# Altium schematic symbol library kmilo17pet-LT_OpAmp_LT2000.SchLib: 1710 symbols (part 53 of 75)
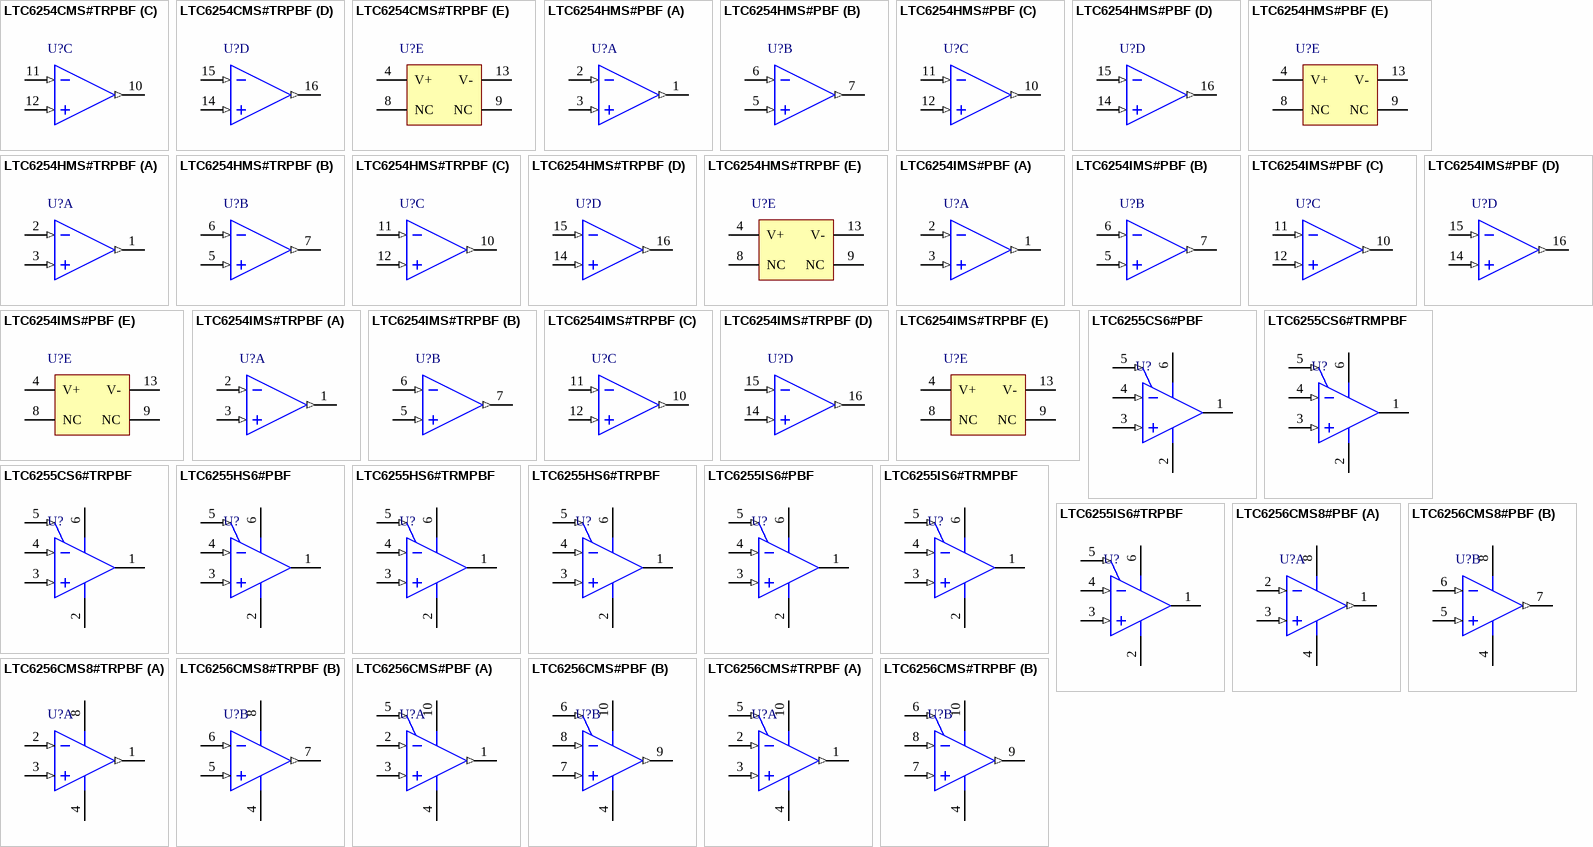
[diagram p132: symbols LTC6254CMS#TRPBF to LTC6256CMS#TRPBF]

## LTC6255HS6#TRPBF
designator U?
Single Channel, Power Efficient Operational Amplifier, RRIO, 6.5 MHz Typical GBW, 1.8 V/us Typical SR, 1.8 to 5.25 V, 6-Pin SOT23 (S6-6), High Temperature / Automotive, Pb-Free, Reel; Linear Technology Part Number: LTC6255; Manufacturer: Linear Technology; PartNumber: LTC6255HS6#TRPBF; Channels (#): 1; GBW (MHz) Typical: 6.5; Is (mA) Typical: 0.06; SR (V/us) Typical: 1.8; Vos (mV) Typical: 0.1; Vs Max (V): 5.25; DatasheetVersion: Rev. B; PackageReference: LT-S6-6-TSOT-23; PackageDescription: 6-Pin Plastic TSOT-23, Body 2.9 x 1.63 mm, Pitch 0.95 mm; Supplier 1: Digi-Key; Supplier Part Number 1: LTC6255HS6#TRPBF-ND; Packing: Reel; RoHS: Pb-Free; Type: VFB; Vs Min (V): 1.8; Mounting Technology: Surface Mount; Code_JEDEC: MO-193; ComponentLink1Description: Manufacturer URL; ComponentLink1URL: http://www.linear.com/; ComponentLink2Description: Datasheet; ComponentLink2URL: http://cds.linear.com/docs/en/datasheet/625567fb.pdf; ComponentLink3Description: Package Specification; ComponentLink3URL: http://cds.linear.com/docs/en/packaging/SOT_6_05-08-1636.pdf
footprint LT-S6-6-TSOT-23_N (SOT23, 6-Leads, Body 2.90x1.63mm, Pitch 0.95mm, IPC Medium Density)
footprint LT-S6-6-TSOT-23_L (SOT23, 6-Leads, Body 2.90x1.63mm, Pitch 0.95mm, IPC High Density)
footprint LT-S6-6-TSOT-23_M (SOT23, 6-Leads, Body 2.90x1.63mm, Pitch 0.95mm, IPC Low Density)
pins: 1 OUT (hiz), 2 V- (power), 3 +IN (in), 4 -IN (in), 5 ~{SHDN} (in), 6 V+ (power)

## LTC6255IS6#PBF
designator U?
Single Channel, Power Efficient Operational Amplifier, RRIO, 6.5 MHz Typical GBW, 1.8 V/us Typical SR, 1.8 to 5.25 V, 6-Pin SOT23 (S6-6), Industrial, Pb-Free; Linear Technology Part Number: LTC6255; Manufacturer: Linear Technology; PartNumber: LTC6255IS6#PBF; Channels (#): 1; GBW (MHz) Typical: 6.5; Is (mA) Typical: 0.06; SR (V/us) Typical: 1.8; Vos (mV) Typical: 0.1; Vs Max (V): 5.25; DatasheetVersion: Rev. B; PackageReference: LT-S6-6-TSOT-23; PackageDescription: 6-Pin Plastic TSOT-23, Body 2.9 x 1.63 mm, Pitch 0.95 mm; Supplier 1: Newark; Supplier Part Number 1: 78T3473; RoHS: Pb-Free; Type: VFB; Vs Min (V): 1.8; Mounting Technology: Surface Mount; Code_JEDEC: MO-193; ComponentLink1Description: Manufacturer URL; ComponentLink1URL: http://www.linear.com/; ComponentLink2Description: Datasheet; ComponentLink2URL: http://cds.linear.com/docs/en/datasheet/625567fb.pdf; ComponentLink3Description: Package Specification; ComponentLink3URL: http://cds.linear.com/docs/en/packaging/SOT_6_05-08-1636.pdf
footprint LT-S6-6-TSOT-23_N (SOT23, 6-Leads, Body 2.90x1.63mm, Pitch 0.95mm, IPC Medium Density)
footprint LT-S6-6-TSOT-23_L (SOT23, 6-Leads, Body 2.90x1.63mm, Pitch 0.95mm, IPC High Density)
footprint LT-S6-6-TSOT-23_M (SOT23, 6-Leads, Body 2.90x1.63mm, Pitch 0.95mm, IPC Low Density)
pins: 1 OUT (hiz), 2 V- (power), 3 +IN (in), 4 -IN (in), 5 ~{SHDN} (in), 6 V+ (power)

## LTC6255IS6#TRMPBF
designator U?
Single Channel, Power Efficient Operational Amplifier, RRIO, 6.5 MHz Typical GBW, 1.8 V/us Typical SR, 1.8 to 5.25 V, 6-Pin SOT23 (S6-6), Industrial, Pb-Free, Mini Reel; Linear Technology Part Number: LTC6255; Manufacturer: Linear Technology; PartNumber: LTC6255IS6#TRMPBF; Channels (#): 1; GBW (MHz) Typical: 6.5; Is (mA) Typical: 0.06; SR (V/us) Typical: 1.8; Vos (mV) Typical: 0.1; Vs Max (V): 5.25; DatasheetVersion: Rev. B; PackageReference: LT-S6-6-TSOT-23; PackageDescription: 6-Pin Plastic TSOT-23, Body 2.9 x 1.63 mm, Pitch 0.95 mm; Supplier 1: Digi-Key; Supplier Part Number 1: LTC6255IS6#TRMPBFTR-ND; Supplier 2: Digi-Key; Supplier Part Number 2: LTC6255IS6#TRMPBFCT-ND; Supplier 3: Digi-Key; Supplier Part Number 3: LTC6255IS6#TRMPBFDKR-ND; Supplier 4: Newark; Supplier Part Number 4: 78R8379; Packing: Mini Reel; RoHS: Pb-Free; Type: VFB; Vs Min (V): 1.8; Mounting Technology: Surface Mount; Code_JEDEC: MO-193; ComponentLink1Description: Manufacturer URL; ComponentLink1URL: http://www.linear.com/; ComponentLink2Description: Datasheet; ComponentLink2URL: http://cds.linear.com/docs/en/datasheet/625567fb.pdf; ComponentLink3Description: Package Specification; ComponentLink3URL: http://cds.linear.com/docs/en/packaging/SOT_6_05-08-1636.pdf
footprint LT-S6-6-TSOT-23_N (SOT23, 6-Leads, Body 2.90x1.63mm, Pitch 0.95mm, IPC Medium Density)
footprint LT-S6-6-TSOT-23_L (SOT23, 6-Leads, Body 2.90x1.63mm, Pitch 0.95mm, IPC High Density)
footprint LT-S6-6-TSOT-23_M (SOT23, 6-Leads, Body 2.90x1.63mm, Pitch 0.95mm, IPC Low Density)
pins: 1 OUT (hiz), 2 V- (power), 3 +IN (in), 4 -IN (in), 5 ~{SHDN} (in), 6 V+ (power)

## LTC6255IS6#TRPBF
designator U?
Single Channel, Power Efficient Operational Amplifier, RRIO, 6.5 MHz Typical GBW, 1.8 V/us Typical SR, 1.8 to 5.25 V, 6-Pin SOT23 (S6-6), Industrial, Pb-Free, Reel; Linear Technology Part Number: LTC6255; Manufacturer: Linear Technology; PartNumber: LTC6255IS6#TRPBF; Channels (#): 1; GBW (MHz) Typical: 6.5; Is (mA) Typical: 0.06; SR (V/us) Typical: 1.8; Vos (mV) Typical: 0.1; Vs Max (V): 5.25; DatasheetVersion: Rev. B; PackageReference: LT-S6-6-TSOT-23; PackageDescription: 6-Pin Plastic TSOT-23, Body 2.9 x 1.63 mm, Pitch 0.95 mm; Supplier 1: Digi-Key; Supplier Part Number 1: LTC6255IS6#TRPBF-ND; Packing: Reel; RoHS: Pb-Free; Type: VFB; Vs Min (V): 1.8; Mounting Technology: Surface Mount; Code_JEDEC: MO-193; ComponentLink1Description: Manufacturer URL; ComponentLink1URL: http://www.linear.com/; ComponentLink2Description: Datasheet; ComponentLink2URL: http://cds.linear.com/docs/en/datasheet/625567fb.pdf; ComponentLink3Description: Package Specification; ComponentLink3URL: http://cds.linear.com/docs/en/packaging/SOT_6_05-08-1636.pdf
footprint LT-S6-6-TSOT-23_N (SOT23, 6-Leads, Body 2.90x1.63mm, Pitch 0.95mm, IPC Medium Density)
footprint LT-S6-6-TSOT-23_L (SOT23, 6-Leads, Body 2.90x1.63mm, Pitch 0.95mm, IPC High Density)
footprint LT-S6-6-TSOT-23_M (SOT23, 6-Leads, Body 2.90x1.63mm, Pitch 0.95mm, IPC Low Density)
pins: 1 OUT (hiz), 2 V- (power), 3 +IN (in), 4 -IN (in), 5 ~{SHDN} (in), 6 V+ (power)

## LTC6256CMS8#PBF
designator U?
Dual Channel, Power Efficient Operational Amplifier, RRIO, 6.5 MHz Typical GBW, 1.8 V/us Typical SR, 1.8 to 5.25 V, 8-Pin SOP (MS8-8), Commercial, Pb-Free; Linear Technology Part Number: LTC6256; Manufacturer: Linear Technology; PartNumber: LTC6256CMS8#PBF; Channels (#): 2; GBW (MHz) Typical: 6.5; Is (mA) Typical: 0.065; SR (V/us) Typical: 1.8; Vos (mV) Typical: 0.1; Vs Max (V): 5.25; DatasheetVersion: Rev. B; PackageVersion: Rev G; PackageReference: LT-MS8-8; PackageDescription: 8-Lead Plastic Small Outline, Body 3.9 x 4.9 mm, Pitch 1.27 mm; Supplier 1: Digi-Key; Supplier Part Number 1: LTC6256CMS8#PBF-ND; Supplier 2: Newark; Supplier Part Number 2: 78R8385; RoHS: Pb-Free; Type: VFB; Vs Min (V): 1.8; Mounting Technology: Surface Mount; ComponentLink1Description: Manufacturer URL; ComponentLink1URL: http://www.linear.com/; ComponentLink2Description: Datasheet; ComponentLink2URL: http://cds.linear.com/docs/en/datasheet/625567fb.pdf; ComponentLink3Description: Package Specification; ComponentLink3URL: http://cds.linear.com/docs/en/packaging/05081610_G_SO8.pdf
footprint LT-MS8-8_N (SOP, 8-Leads, Body 3x3mm, Pitch 0.65mm, IPC Medium Density)
footprint LT-MS8-8_L (SOP, 8-Leads, Body 3x3mm, Pitch 0.65mm, IPC High Density)
footprint LT-MS8-8_M (SOP, 8-Leads, Body 3x3mm, Pitch 0.65mm, IPC Low Density)
pins on every part: 4 V- (power), 8 V+ (power)
part A pins: 1 OUTA (out), 2 -INA (in), 3 +INA (in)
part B pins: 5 +INB (in), 6 -INB (in), 7 OUTB (out)

## LTC6256CMS8#TRPBF
designator U?
Dual Channel, Power Efficient Operational Amplifier, RRIO, 6.5 MHz Typical GBW, 1.8 V/us Typical SR, 1.8 to 5.25 V, 8-Pin SOP (MS8-8), Commercial, Pb-Free, Reel; Linear Technology Part Number: LTC6256; Manufacturer: Linear Technology; PartNumber: LTC6256CMS8#TRPBF; Channels (#): 2; GBW (MHz) Typical: 6.5; Is (mA) Typical: 0.065; SR (V/us) Typical: 1.8; Vos (mV) Typical: 0.1; Vs Max (V): 5.25; DatasheetVersion: Rev. B; PackageVersion: Rev G; PackageReference: LT-MS8-8; PackageDescription: 8-Lead Plastic Small Outline, Body 3.9 x 4.9 mm, Pitch 1.27 mm; Supplier 1: Digi-Key; Supplier Part Number 1: LTC6256CMS8#TRPBF-ND; Packing: Reel; RoHS: Pb-Free; Type: VFB; Vs Min (V): 1.8; Mounting Technology: Surface Mount; ComponentLink1Description: Manufacturer URL; ComponentLink1URL: http://www.linear.com/; ComponentLink2Description: Datasheet; ComponentLink2URL: http://cds.linear.com/docs/en/datasheet/625567fb.pdf; ComponentLink3Description: Package Specification; ComponentLink3URL: http://cds.linear.com/docs/en/packaging/05081610_G_SO8.pdf
footprint LT-MS8-8_N (SOP, 8-Leads, Body 3x3mm, Pitch 0.65mm, IPC Medium Density)
footprint LT-MS8-8_L (SOP, 8-Leads, Body 3x3mm, Pitch 0.65mm, IPC High Density)
footprint LT-MS8-8_M (SOP, 8-Leads, Body 3x3mm, Pitch 0.65mm, IPC Low Density)
pins on every part: 4 V- (power), 8 V+ (power)
part A pins: 1 OUTA (out), 2 -INA (in), 3 +INA (in)
part B pins: 5 +INB (in), 6 -INB (in), 7 OUTB (out)

## LTC6256CMS#PBF
designator U?
Dual Channel, Power Efficient Operational Amplifier, RRIO, 6.5 MHz Typical GBW, 1.8 V/us Typical SR, 1.8 to 5.25 V, 10-Pin SOP (MS-10), Commercial, Pb-Free; Linear Technology Part Number: LTC6256; Manufacturer: Linear Technology; PartNumber: LTC6256CMS#PBF; Channels (#): 2; GBW (MHz) Typical: 6.5; Is (mA) Typical: 0.065; SR (V/us) Typical: 1.8; Vos (mV) Typical: 0.1; Vs Max (V): 5.25; DatasheetVersion: Rev. B; PackageVersion: Rev E; PackageReference: LT-MS-10; PackageDescription: 10-Lead Plastic MSOP, Body 3 x 3 mm, Pitch 0.5 mm; Supplier 1: Digi-Key; Supplier Part Number 1: LTC6256CMS#PBF-ND; Supplier 2: Farnell; Supplier Part Number 2: 1832983; Supplier 3: Newark; Supplier Part Number 3: 78R8383; RoHS: Pb-Free; Type: VFB; Vs Min (V): 1.8; Mounting Technology: Surface Mount; ComponentLink1Description: Manufacturer URL; ComponentLink1URL: http://www.linear.com/; ComponentLink2Description: Datasheet; ComponentLink2URL: http://cds.linear.com/docs/en/datasheet/625567fb.pdf; ComponentLink3Description: Package Specification; ComponentLink3URL: http://cds.linear.com/docs/en/packaging/MSOP_10_05-08-1661.pdf
footprint LT-MS-10_N (SOP, 10-Leads, Body 3x3mm, Pitch 0.50mm, IPC Medium Density)
footprint LT-MS-10_L (SOP, 10-Leads, Body 3x3mm, Pitch 0.50mm, IPC High Density)
footprint LT-MS-10_M (SOP, 10-Leads, Body 3x3mm, Pitch 0.50mm, IPC Low Density)
pins on every part: 4 V- (power) "Negative Power Supply. It is normally tied to ground.It can also be tied to a voltage other than ground as long as the voltage between V+ and V- is from 1.8V to 5.25V.If it is not connected to ground, bypass it with a (See Datasheet)", 10 V+ (power) "Positive Power Supply. Typically the voltage is from 1.8V to 5.25V. Split supplies are possible as long as the voltage between V+ and V- is between 1.8V and 5.25V. A bypass capacitor of 0.1uF as close to the part as possible (See Datasheet)"
part A pins: 1 OUTA (out) "Amplifier Output. The voltage range extends to within millivolts of each supply rail.", 2 -INA (in) "Inverting Input of the Amplifier. Voltage range of this pin can go from V- - 0.1V to V+ + 0.1V.", 3 +INA (in) "Non-Inverting Input of Amplifier. This pin has the same voltage range as -IN.", 5 ~{SHDNA} (in) "Active Low Shutdown. Shutdown threshold is 0.6V above negative rail. If left unconnected, the amplifier will be on."
part B pins: 6 ~{SHDNB} (in) "Active Low Shutdown. Shutdown threshold is 0.6V above negative rail. If left unconnected, the amplifier will be on.", 7 +INB (in) "Non-Inverting Input of Amplifier. This pin has the same voltage range as -IN.", 8 -INB (in) "Inverting Input of the Amplifier. Voltage range of this pin can go from V- - 0.1V to V+ + 0.1V.", 9 OUTB (out) "Amplifier Output. The voltage range extends to within millivolts of each supply rail."

## LTC6256CMS#TRPBF
designator U?
Dual Channel, Power Efficient Operational Amplifier, RRIO, 6.5 MHz Typical GBW, 1.8 V/us Typical SR, 1.8 to 5.25 V, 10-Pin SOP (MS-10), Commercial, Pb-Free, Reel; Linear Technology Part Number: LTC6256; Manufacturer: Linear Technology; PartNumber: LTC6256CMS#TRPBF; Channels (#): 2; GBW (MHz) Typical: 6.5; Is (mA) Typical: 0.065; SR (V/us) Typical: 1.8; Vos (mV) Typical: 0.1; Vs Max (V): 5.25; DatasheetVersion: Rev. B; PackageVersion: Rev E; PackageReference: LT-MS-10; PackageDescription: 10-Lead Plastic MSOP, Body 3 x 3 mm, Pitch 0.5 mm; Supplier 1: Digi-Key; Supplier Part Number 1: LTC6256CMS#TRPBF-ND; Packing: Reel; RoHS: Pb-Free; Type: VFB; Vs Min (V): 1.8; Mounting Technology: Surface Mount; ComponentLink1Description: Manufacturer URL; ComponentLink1URL: http://www.linear.com/; ComponentLink2Description: Datasheet; ComponentLink2URL: http://cds.linear.com/docs/en/datasheet/625567fb.pdf; ComponentLink3Description: Package Specification; ComponentLink3URL: http://cds.linear.com/docs/en/packaging/MSOP_10_05-08-1661.pdf
footprint LT-MS-10_N (SOP, 10-Leads, Body 3x3mm, Pitch 0.50mm, IPC Medium Density)
footprint LT-MS-10_L (SOP, 10-Leads, Body 3x3mm, Pitch 0.50mm, IPC High Density)
footprint LT-MS-10_M (SOP, 10-Leads, Body 3x3mm, Pitch 0.50mm, IPC Low Density)
pins on every part: 4 V- (power) "Negative Power Supply. It is normally tied to ground.It can also be tied to a voltage other than ground as long as the voltage between V+ and V- is from 1.8V to 5.25V.If it is not connected to ground, bypass it with a (See Datasheet)", 10 V+ (power) "Positive Power Supply. Typically the voltage is from 1.8V to 5.25V. Split supplies are possible as long as the voltage between V+ and V- is between 1.8V and 5.25V. A bypass capacitor of 0.1uF as close to the part as possible (See Datasheet)"
part A pins: 1 OUTA (out) "Amplifier Output. The voltage range extends to within millivolts of each supply rail.", 2 -INA (in) "Inverting Input of the Amplifier. Voltage range of this pin can go from V- - 0.1V to V+ + 0.1V.", 3 +INA (in) "Non-Inverting Input of Amplifier. This pin has the same voltage range as -IN.", 5 ~{SHDNA} (in) "Active Low Shutdown. Shutdown threshold is 0.6V above negative rail. If left unconnected, the amplifier will be on."
part B pins: 6 ~{SHDNB} (in) "Active Low Shutdown. Shutdown threshold is 0.6V above negative rail. If left unconnected, the amplifier will be on.", 7 +INB (in) "Non-Inverting Input of Amplifier. This pin has the same voltage range as -IN.", 8 -INB (in) "Inverting Input of the Amplifier. Voltage range of this pin can go from V- - 0.1V to V+ + 0.1V.", 9 OUTB (out) "Amplifier Output. The voltage range extends to within millivolts of each supply rail."

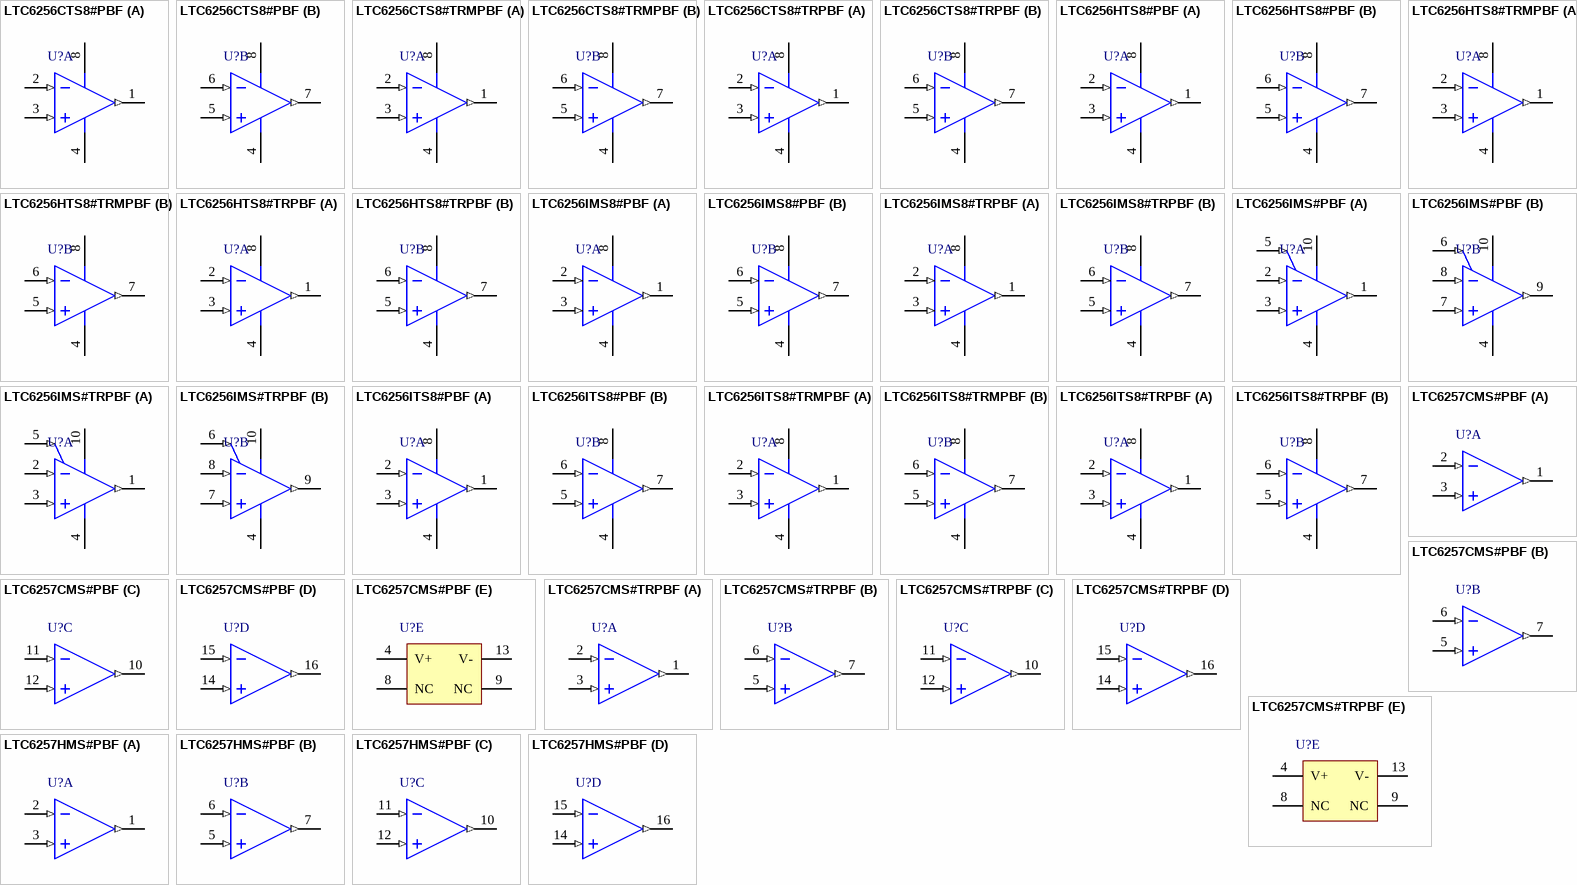
[diagram p70: symbols LTC6256CTS8#PBF to LTC6257HMS#PBF]

## LTC6256CTS8#PBF
designator U?
Dual Channel, Power Efficient Operational Amplifier, RRIO, 6.5 MHz Typical GBW, 1.8 V/us Typical SR, 1.8 to 5.25 V, 8-Pin SOP (TS8-8), Commercial, Pb-Free; Linear Technology Part Number: LTC6256; Manufacturer: Linear Technology; PartNumber: LTC6256CTS8#PBF; Channels (#): 2; GBW (MHz) Typical: 6.5; Is (mA) Typical: 0.065; SR (V/us) Typical: 1.8; Vos (mV) Typical: 0.1; Vs Max (V): 5.25; DatasheetVersion: Rev. B; PackageVersion: Rev A; PackageReference: LT-TS8-8-TSOT-23; PackageDescription: 8-Lead Plastic TSOT-23, Body 2.9 x 1.63 mm, Pitch 0.65 mm; Supplier 1: Farnell; Supplier Part Number 1: 1833785; Supplier 2: Newark; Supplier Part Number 2: 79R3061; RoHS: Pb-Free; Type: VFB; Vs Min (V): 1.8; Mounting Technology: Surface Mount; Code_JEDEC: MO-193; ComponentLink1Description: Manufacturer URL; ComponentLink1URL: http://www.linear.com/; ComponentLink2Description: Datasheet; ComponentLink2URL: http://cds.linear.com/docs/en/datasheet/625567fb.pdf; ComponentLink3Description: Package Specification; ComponentLink3URL: http://cds.linear.com/docs/en/packaging/SOT_8_05-08-1637.pdf
footprint LT-TS8-8-TSOT-23_V (SOT23, 8-Leads, Body 2.90x1.63mm, Pitch 0.65mm, IPC High Density, Recommended)
pins on every part: 4 V- (power) "Negative Power Supply. It is normally tied to ground. It can also be tied to a voltage other than ground as long as the voltage between V+ and V- is from 1.8V to 5.25V. If it is not connected to ground, bypass it with a (See Datasheet)", 8 V+ (power) "Positive Power Supply. Typically the voltage is from 1.8V to 5.25V. Split supplies are possible as long as the voltage between V+ and V- is between 1.8V and 5.25V. A bypass capacitor of 0.1uF as close to the part as possible (See Datasheet)"
part A pins: 1 OUTA (out) "Amplifier Output. The voltage range extends to within millivolts of each supply rail.", 2 -INA (in) "Inverting Input of the Amplifier. Voltage range of this pin can go from V- -0.1V to V+ + 0.1V.", 3 +INA (in) "Non-Inverting Input of Amplifier. This pin has the same voltage range as -IN."
part B pins: 5 +INB (in) "Non-Inverting Input of Amplifier. This pin has the same voltage range as -IN.", 6 -INB (in) "Inverting Input of the Amplifier. Voltage range of this pin can go from V- -0.1V to V+ + 0.1V.", 7 OUTB (out) "Amplifier Output. The voltage range extends to within millivolts of each supply rail."

## LTC6256CTS8#TRMPBF
designator U?
Dual Channel, Power Efficient Operational Amplifier, RRIO, 6.5 MHz Typical GBW, 1.8 V/us Typical SR, 1.8 to 5.25 V, 8-Pin SOP (TS8-8), Commercial, Pb-Free, Mini Reel; Linear Technology Part Number: LTC6256; Manufacturer: Linear Technology; PartNumber: LTC6256CTS8#TRMPBF; Channels (#): 2; GBW (MHz) Typical: 6.5; Is (mA) Typical: 0.065; SR (V/us) Typical: 1.8; Vos (mV) Typical: 0.1; Vs Max (V): 5.25; DatasheetVersion: Rev. B; PackageVersion: Rev A; PackageReference: LT-TS8-8-TSOT-23; PackageDescription: 8-Lead Plastic TSOT-23, Body 2.9 x 1.63 mm, Pitch 0.65 mm; Supplier 1: Digi-Key; Supplier Part Number 1: LTC6256CTS8#TRMPBFTR-ND; Supplier 2: Digi-Key; Supplier Part Number 2: LTC6256CTS8#TRMPBFCT-ND; Supplier 3: Digi-Key; Supplier Part Number 3: LTC6256CTS8#TRMPBFDKR-ND; Packing: Mini Reel; RoHS: Pb-Free; Type: VFB; Vs Min (V): 1.8; Mounting Technology: Surface Mount; Code_JEDEC: MO-193; ComponentLink1Description: Manufacturer URL; ComponentLink1URL: http://www.linear.com/; ComponentLink2Description: Datasheet; ComponentLink2URL: http://cds.linear.com/docs/en/datasheet/625567fb.pdf; ComponentLink3Description: Package Specification; ComponentLink3URL: http://cds.linear.com/docs/en/packaging/SOT_8_05-08-1637.pdf
footprint LT-TS8-8-TSOT-23_V (SOT23, 8-Leads, Body 2.90x1.63mm, Pitch 0.65mm, IPC High Density, Recommended)
pins on every part: 4 V- (power) "Negative Power Supply. It is normally tied to ground. It can also be tied to a voltage other than ground as long as the voltage between V+ and V- is from 1.8V to 5.25V. If it is not connected to ground, bypass it with a (See Datasheet)", 8 V+ (power) "Positive Power Supply. Typically the voltage is from 1.8V to 5.25V. Split supplies are possible as long as the voltage between V+ and V- is between 1.8V and 5.25V. A bypass capacitor of 0.1uF as close to the part as possible (See Datasheet)"
part A pins: 1 OUTA (out) "Amplifier Output. The voltage range extends to within millivolts of each supply rail.", 2 -INA (in) "Inverting Input of the Amplifier. Voltage range of this pin can go from V- -0.1V to V+ + 0.1V.", 3 +INA (in) "Non-Inverting Input of Amplifier. This pin has the same voltage range as -IN."
part B pins: 5 +INB (in) "Non-Inverting Input of Amplifier. This pin has the same voltage range as -IN.", 6 -INB (in) "Inverting Input of the Amplifier. Voltage range of this pin can go from V- -0.1V to V+ + 0.1V.", 7 OUTB (out) "Amplifier Output. The voltage range extends to within millivolts of each supply rail."

## LTC6256CTS8#TRPBF
designator U?
Dual Channel, Power Efficient Operational Amplifier, RRIO, 6.5 MHz Typical GBW, 1.8 V/us Typical SR, 1.8 to 5.25 V, 8-Pin SOP (TS8-8), Commercial, Pb-Free, Reel; Linear Technology Part Number: LTC6256; Manufacturer: Linear Technology; PartNumber: LTC6256CTS8#TRPBF; Channels (#): 2; GBW (MHz) Typical: 6.5; Is (mA) Typical: 0.065; SR (V/us) Typical: 1.8; Vos (mV) Typical: 0.1; Vs Max (V): 5.25; DatasheetVersion: Rev. B; PackageVersion: Rev A; PackageReference: LT-TS8-8-TSOT-23; PackageDescription: 8-Lead Plastic TSOT-23, Body 2.9 x 1.63 mm, Pitch 0.65 mm; Supplier 1: Digi-Key; Supplier Part Number 1: LTC6256CTS8#TRPBF-ND; Packing: Reel; RoHS: Pb-Free; Type: VFB; Vs Min (V): 1.8; Mounting Technology: Surface Mount; Code_JEDEC: MO-193; ComponentLink1Description: Manufacturer URL; ComponentLink1URL: http://www.linear.com/; ComponentLink2Description: Datasheet; ComponentLink2URL: http://cds.linear.com/docs/en/datasheet/625567fb.pdf; ComponentLink3Description: Package Specification; ComponentLink3URL: http://cds.linear.com/docs/en/packaging/SOT_8_05-08-1637.pdf
footprint LT-TS8-8-TSOT-23_V (SOT23, 8-Leads, Body 2.90x1.63mm, Pitch 0.65mm, IPC High Density, Recommended)
pins on every part: 4 V- (power) "Negative Power Supply. It is normally tied to ground. It can also be tied to a voltage other than ground as long as the voltage between V+ and V- is from 1.8V to 5.25V. If it is not connected to ground, bypass it with a (See Datasheet)", 8 V+ (power) "Positive Power Supply. Typically the voltage is from 1.8V to 5.25V. Split supplies are possible as long as the voltage between V+ and V- is between 1.8V and 5.25V. A bypass capacitor of 0.1uF as close to the part as possible (See Datasheet)"
part A pins: 1 OUTA (out) "Amplifier Output. The voltage range extends to within millivolts of each supply rail.", 2 -INA (in) "Inverting Input of the Amplifier. Voltage range of this pin can go from V- -0.1V to V+ + 0.1V.", 3 +INA (in) "Non-Inverting Input of Amplifier. This pin has the same voltage range as -IN."
part B pins: 5 +INB (in) "Non-Inverting Input of Amplifier. This pin has the same voltage range as -IN.", 6 -INB (in) "Inverting Input of the Amplifier. Voltage range of this pin can go from V- -0.1V to V+ + 0.1V.", 7 OUTB (out) "Amplifier Output. The voltage range extends to within millivolts of each supply rail."

## LTC6256HTS8#PBF
designator U?
Dual Channel, Power Efficient Operational Amplifier, RRIO, 6.5 MHz Typical GBW, 1.8 V/us Typical SR, 1.8 to 5.25 V, 8-Pin SOP (TS8-8), High Temperature / Automotive, Pb-Free; Linear Technology Part Number: LTC6256; Manufacturer: Linear Technology; PartNumber: LTC6256HTS8#PBF; Channels (#): 2; GBW (MHz) Typical: 6.5; Is (mA) Typical: 0.065; SR (V/us) Typical: 1.8; Vos (mV) Typical: 0.1; Vs Max (V): 5.25; DatasheetVersion: Rev. B; PackageVersion: Rev A; PackageReference: LT-TS8-8-TSOT-23; PackageDescription: 8-Lead Plastic TSOT-23, Body 2.9 x 1.63 mm, Pitch 0.65 mm; RoHS: Pb-Free; Type: VFB; Vs Min (V): 1.8; Mounting Technology: Surface Mount; Code_JEDEC: MO-193; ComponentLink1Description: Manufacturer URL; ComponentLink1URL: http://www.linear.com/; ComponentLink2Description: Datasheet; ComponentLink2URL: http://cds.linear.com/docs/en/datasheet/625567fb.pdf; ComponentLink3Description: Package Specification; ComponentLink3URL: http://cds.linear.com/docs/en/packaging/SOT_8_05-08-1637.pdf
footprint LT-TS8-8-TSOT-23_V (SOT23, 8-Leads, Body 2.90x1.63mm, Pitch 0.65mm, IPC High Density, Recommended)
pins on every part: 4 V- (power) "Negative Power Supply. It is normally tied to ground. It can also be tied to a voltage other than ground as long as the voltage between V+ and V- is from 1.8V to 5.25V. If it is not connected to ground, bypass it with a (See Datasheet)", 8 V+ (power) "Positive Power Supply. Typically the voltage is from 1.8V to 5.25V. Split supplies are possible as long as the voltage between V+ and V- is between 1.8V and 5.25V. A bypass capacitor of 0.1uF as close to the part as possible (See Datasheet)"
part A pins: 1 OUTA (out) "Amplifier Output. The voltage range extends to within millivolts of each supply rail.", 2 -INA (in) "Inverting Input of the Amplifier. Voltage range of this pin can go from V- -0.1V to V+ + 0.1V.", 3 +INA (in) "Non-Inverting Input of Amplifier. This pin has the same voltage range as -IN."
part B pins: 5 +INB (in) "Non-Inverting Input of Amplifier. This pin has the same voltage range as -IN.", 6 -INB (in) "Inverting Input of the Amplifier. Voltage range of this pin can go from V- -0.1V to V+ + 0.1V.", 7 OUTB (out) "Amplifier Output. The voltage range extends to within millivolts of each supply rail."

## LTC6256HTS8#TRMPBF
designator U?
Dual Channel, Power Efficient Operational Amplifier, RRIO, 6.5 MHz Typical GBW, 1.8 V/us Typical SR, 1.8 to 5.25 V, 8-Pin SOP (TS8-8), High Temperature / Automotive, Pb-Free, Mini Reel; Linear Technology Part Number: LTC6256; Manufacturer: Linear Technology; PartNumber: LTC6256HTS8#TRMPBF; Channels (#): 2; GBW (MHz) Typical: 6.5; Is (mA) Typical: 0.065; SR (V/us) Typical: 1.8; Vos (mV) Typical: 0.1; Vs Max (V): 5.25; DatasheetVersion: Rev. B; PackageVersion: Rev A; PackageReference: LT-TS8-8-TSOT-23; PackageDescription: 8-Lead Plastic TSOT-23, Body 2.9 x 1.63 mm, Pitch 0.65 mm; Supplier 1: Digi-Key; Supplier Part Number 1: LTC6256HTS8#TRMPBF-ND; Supplier 2: Newark; Supplier Part Number 2: 78R8389; Packing: Mini Reel; RoHS: Pb-Free; Type: VFB; Vs Min (V): 1.8; Mounting Technology: Surface Mount; Code_JEDEC: MO-193; ComponentLink1Description: Manufacturer URL; ComponentLink1URL: http://www.linear.com/; ComponentLink2Description: Datasheet; ComponentLink2URL: http://cds.linear.com/docs/en/datasheet/625567fb.pdf; ComponentLink3Description: Package Specification; ComponentLink3URL: http://cds.linear.com/docs/en/packaging/SOT_8_05-08-1637.pdf
footprint LT-TS8-8-TSOT-23_V (SOT23, 8-Leads, Body 2.90x1.63mm, Pitch 0.65mm, IPC High Density, Recommended)
pins on every part: 4 V- (power) "Negative Power Supply. It is normally tied to ground. It can also be tied to a voltage other than ground as long as the voltage between V+ and V- is from 1.8V to 5.25V. If it is not connected to ground, bypass it with a (See Datasheet)", 8 V+ (power) "Positive Power Supply. Typically the voltage is from 1.8V to 5.25V. Split supplies are possible as long as the voltage between V+ and V- is between 1.8V and 5.25V. A bypass capacitor of 0.1uF as close to the part as possible (See Datasheet)"
part A pins: 1 OUTA (out) "Amplifier Output. The voltage range extends to within millivolts of each supply rail.", 2 -INA (in) "Inverting Input of the Amplifier. Voltage range of this pin can go from V- -0.1V to V+ + 0.1V.", 3 +INA (in) "Non-Inverting Input of Amplifier. This pin has the same voltage range as -IN."
part B pins: 5 +INB (in) "Non-Inverting Input of Amplifier. This pin has the same voltage range as -IN.", 6 -INB (in) "Inverting Input of the Amplifier. Voltage range of this pin can go from V- -0.1V to V+ + 0.1V.", 7 OUTB (out) "Amplifier Output. The voltage range extends to within millivolts of each supply rail."

## LTC6256HTS8#TRPBF
designator U?
Dual Channel, Power Efficient Operational Amplifier, RRIO, 6.5 MHz Typical GBW, 1.8 V/us Typical SR, 1.8 to 5.25 V, 8-Pin SOP (TS8-8), High Temperature / Automotive, Pb-Free, Reel; Linear Technology Part Number: LTC6256; Manufacturer: Linear Technology; PartNumber: LTC6256HTS8#TRPBF; Channels (#): 2; GBW (MHz) Typical: 6.5; Is (mA) Typical: 0.065; SR (V/us) Typical: 1.8; Vos (mV) Typical: 0.1; Vs Max (V): 5.25; DatasheetVersion: Rev. B; PackageVersion: Rev A; PackageReference: LT-TS8-8-TSOT-23; PackageDescription: 8-Lead Plastic TSOT-23, Body 2.9 x 1.63 mm, Pitch 0.65 mm; Supplier 1: Digi-Key; Supplier Part Number 1: LTC6256HTS8#TRPBF-ND; Packing: Reel; RoHS: Pb-Free; Type: VFB; Vs Min (V): 1.8; Mounting Technology: Surface Mount; Code_JEDEC: MO-193; ComponentLink1Description: Manufacturer URL; ComponentLink1URL: http://www.linear.com/; ComponentLink2Description: Datasheet; ComponentLink2URL: http://cds.linear.com/docs/en/datasheet/625567fb.pdf; ComponentLink3Description: Package Specification; ComponentLink3URL: http://cds.linear.com/docs/en/packaging/SOT_8_05-08-1637.pdf
footprint LT-TS8-8-TSOT-23_V (SOT23, 8-Leads, Body 2.90x1.63mm, Pitch 0.65mm, IPC High Density, Recommended)
pins on every part: 4 V- (power) "Negative Power Supply. It is normally tied to ground. It can also be tied to a voltage other than ground as long as the voltage between V+ and V- is from 1.8V to 5.25V. If it is not connected to ground, bypass it with a (See Datasheet)", 8 V+ (power) "Positive Power Supply. Typically the voltage is from 1.8V to 5.25V. Split supplies are possible as long as the voltage between V+ and V- is between 1.8V and 5.25V. A bypass capacitor of 0.1uF as close to the part as possible (See Datasheet)"
part A pins: 1 OUTA (out) "Amplifier Output. The voltage range extends to within millivolts of each supply rail.", 2 -INA (in) "Inverting Input of the Amplifier. Voltage range of this pin can go from V- -0.1V to V+ + 0.1V.", 3 +INA (in) "Non-Inverting Input of Amplifier. This pin has the same voltage range as -IN."
part B pins: 5 +INB (in) "Non-Inverting Input of Amplifier. This pin has the same voltage range as -IN.", 6 -INB (in) "Inverting Input of the Amplifier. Voltage range of this pin can go from V- -0.1V to V+ + 0.1V.", 7 OUTB (out) "Amplifier Output. The voltage range extends to within millivolts of each supply rail."

## LTC6256IMS8#PBF
designator U?
Dual Channel, Power Efficient Operational Amplifier, RRIO, 6.5 MHz Typical GBW, 1.8 V/us Typical SR, 1.8 to 5.25 V, 8-Pin SOP (MS8-8), Industrial, Pb-Free; Linear Technology Part Number: LTC6256; Manufacturer: Linear Technology; PartNumber: LTC6256IMS8#PBF; Channels (#): 2; GBW (MHz) Typical: 6.5; Is (mA) Typical: 0.065; SR (V/us) Typical: 1.8; Vos (mV) Typical: 0.1; Vs Max (V): 5.25; DatasheetVersion: Rev. B; PackageVersion: Rev G; PackageReference: LT-MS8-8; PackageDescription: 8-Lead Plastic Small Outline, Body 3.9 x 4.9 mm, Pitch 1.27 mm; Supplier 1: Digi-Key; Supplier Part Number 1: LTC6256IMS8#PBF-ND; RoHS: Pb-Free; Type: VFB; Vs Min (V): 1.8; Mounting Technology: Surface Mount; ComponentLink1Description: Manufacturer URL; ComponentLink1URL: http://www.linear.com/; ComponentLink2Description: Datasheet; ComponentLink2URL: http://cds.linear.com/docs/en/datasheet/625567fb.pdf; ComponentLink3Description: Package Specification; ComponentLink3URL: http://cds.linear.com/docs/en/packaging/05081610_G_SO8.pdf
footprint LT-MS8-8_N (SOP, 8-Leads, Body 3x3mm, Pitch 0.65mm, IPC Medium Density)
footprint LT-MS8-8_L (SOP, 8-Leads, Body 3x3mm, Pitch 0.65mm, IPC High Density)
footprint LT-MS8-8_M (SOP, 8-Leads, Body 3x3mm, Pitch 0.65mm, IPC Low Density)
pins on every part: 4 V- (power), 8 V+ (power)
part A pins: 1 OUTA (out), 2 -INA (in), 3 +INA (in)
part B pins: 5 +INB (in), 6 -INB (in), 7 OUTB (out)

## LTC6256IMS8#TRPBF
designator U?
Dual Channel, Power Efficient Operational Amplifier, RRIO, 6.5 MHz Typical GBW, 1.8 V/us Typical SR, 1.8 to 5.25 V, 8-Pin SOP (MS8-8), Industrial, Pb-Free, Reel; Linear Technology Part Number: LTC6256; Manufacturer: Linear Technology; PartNumber: LTC6256IMS8#TRPBF; Channels (#): 2; GBW (MHz) Typical: 6.5; Is (mA) Typical: 0.065; SR (V/us) Typical: 1.8; Vos (mV) Typical: 0.1; Vs Max (V): 5.25; DatasheetVersion: Rev. B; PackageVersion: Rev G; PackageReference: LT-MS8-8; PackageDescription: 8-Lead Plastic Small Outline, Body 3.9 x 4.9 mm, Pitch 1.27 mm; Supplier 1: Digi-Key; Supplier Part Number 1: LTC6256IMS8#TRPBF-ND; Packing: Reel; RoHS: Pb-Free; Type: VFB; Vs Min (V): 1.8; Mounting Technology: Surface Mount; ComponentLink1Description: Manufacturer URL; ComponentLink1URL: http://www.linear.com/; ComponentLink2Description: Datasheet; ComponentLink2URL: http://cds.linear.com/docs/en/datasheet/625567fb.pdf; ComponentLink3Description: Package Specification; ComponentLink3URL: http://cds.linear.com/docs/en/packaging/05081610_G_SO8.pdf
footprint LT-MS8-8_N (SOP, 8-Leads, Body 3x3mm, Pitch 0.65mm, IPC Medium Density)
footprint LT-MS8-8_L (SOP, 8-Leads, Body 3x3mm, Pitch 0.65mm, IPC High Density)
footprint LT-MS8-8_M (SOP, 8-Leads, Body 3x3mm, Pitch 0.65mm, IPC Low Density)
pins on every part: 4 V- (power), 8 V+ (power)
part A pins: 1 OUTA (out), 2 -INA (in), 3 +INA (in)
part B pins: 5 +INB (in), 6 -INB (in), 7 OUTB (out)

## LTC6256IMS#PBF
designator U?
Dual Channel, Power Efficient Operational Amplifier, RRIO, 6.5 MHz Typical GBW, 1.8 V/us Typical SR, 1.8 to 5.25 V, 10-Pin SOP (MS-10), Industrial, Pb-Free; Linear Technology Part Number: LTC6256; Manufacturer: Linear Technology; PartNumber: LTC6256IMS#PBF; Channels (#): 2; GBW (MHz) Typical: 6.5; Is (mA) Typical: 0.065; SR (V/us) Typical: 1.8; Vos (mV) Typical: 0.1; Vs Max (V): 5.25; DatasheetVersion: Rev. B; PackageVersion: Rev E; PackageReference: LT-MS-10; PackageDescription: 10-Lead Plastic MSOP, Body 3 x 3 mm, Pitch 0.5 mm; Supplier 1: Digi-Key; Supplier Part Number 1: LTC6256IMS#PBF-ND; RoHS: Pb-Free; Type: VFB; Vs Min (V): 1.8; Mounting Technology: Surface Mount; ComponentLink1Description: Manufacturer URL; ComponentLink1URL: http://www.linear.com/; ComponentLink2Description: Datasheet; ComponentLink2URL: http://cds.linear.com/docs/en/datasheet/625567fb.pdf; ComponentLink3Description: Package Specification; ComponentLink3URL: http://cds.linear.com/docs/en/packaging/MSOP_10_05-08-1661.pdf
footprint LT-MS-10_N (SOP, 10-Leads, Body 3x3mm, Pitch 0.50mm, IPC Medium Density)
footprint LT-MS-10_L (SOP, 10-Leads, Body 3x3mm, Pitch 0.50mm, IPC High Density)
footprint LT-MS-10_M (SOP, 10-Leads, Body 3x3mm, Pitch 0.50mm, IPC Low Density)
pins on every part: 4 V- (power) "Negative Power Supply. It is normally tied to ground.It can also be tied to a voltage other than ground as long as the voltage between V+ and V- is from 1.8V to 5.25V.If it is not connected to ground, bypass it with a (See Datasheet)", 10 V+ (power) "Positive Power Supply. Typically the voltage is from 1.8V to 5.25V. Split supplies are possible as long as the voltage between V+ and V- is between 1.8V and 5.25V. A bypass capacitor of 0.1uF as close to the part as possible (See Datasheet)"
part A pins: 1 OUTA (out) "Amplifier Output. The voltage range extends to within millivolts of each supply rail.", 2 -INA (in) "Inverting Input of the Amplifier. Voltage range of this pin can go from V- - 0.1V to V+ + 0.1V.", 3 +INA (in) "Non-Inverting Input of Amplifier. This pin has the same voltage range as -IN.", 5 ~{SHDNA} (in) "Active Low Shutdown. Shutdown threshold is 0.6V above negative rail. If left unconnected, the amplifier will be on."
part B pins: 6 ~{SHDNB} (in) "Active Low Shutdown. Shutdown threshold is 0.6V above negative rail. If left unconnected, the amplifier will be on.", 7 +INB (in) "Non-Inverting Input of Amplifier. This pin has the same voltage range as -IN.", 8 -INB (in) "Inverting Input of the Amplifier. Voltage range of this pin can go from V- - 0.1V to V+ + 0.1V.", 9 OUTB (out) "Amplifier Output. The voltage range extends to within millivolts of each supply rail."

## LTC6256IMS#TRPBF
designator U?
Dual Channel, Power Efficient Operational Amplifier, RRIO, 6.5 MHz Typical GBW, 1.8 V/us Typical SR, 1.8 to 5.25 V, 10-Pin SOP (MS-10), Industrial, Pb-Free, Reel; Linear Technology Part Number: LTC6256; Manufacturer: Linear Technology; PartNumber: LTC6256IMS#TRPBF; Channels (#): 2; GBW (MHz) Typical: 6.5; Is (mA) Typical: 0.065; SR (V/us) Typical: 1.8; Vos (mV) Typical: 0.1; Vs Max (V): 5.25; DatasheetVersion: Rev. B; PackageVersion: Rev E; PackageReference: LT-MS-10; PackageDescription: 10-Lead Plastic MSOP, Body 3 x 3 mm, Pitch 0.5 mm; Supplier 1: Digi-Key; Supplier Part Number 1: LTC6256IMS#TRPBF-ND; Packing: Reel; RoHS: Pb-Free; Type: VFB; Vs Min (V): 1.8; Mounting Technology: Surface Mount; ComponentLink1Description: Manufacturer URL; ComponentLink1URL: http://www.linear.com/; ComponentLink2Description: Datasheet; ComponentLink2URL: http://cds.linear.com/docs/en/datasheet/625567fb.pdf; ComponentLink3Description: Package Specification; ComponentLink3URL: http://cds.linear.com/docs/en/packaging/MSOP_10_05-08-1661.pdf
footprint LT-MS-10_N (SOP, 10-Leads, Body 3x3mm, Pitch 0.50mm, IPC Medium Density)
footprint LT-MS-10_L (SOP, 10-Leads, Body 3x3mm, Pitch 0.50mm, IPC High Density)
footprint LT-MS-10_M (SOP, 10-Leads, Body 3x3mm, Pitch 0.50mm, IPC Low Density)
pins on every part: 4 V- (power) "Negative Power Supply. It is normally tied to ground.It can also be tied to a voltage other than ground as long as the voltage between V+ and V- is from 1.8V to 5.25V.If it is not connected to ground, bypass it with a (See Datasheet)", 10 V+ (power) "Positive Power Supply. Typically the voltage is from 1.8V to 5.25V. Split supplies are possible as long as the voltage between V+ and V- is between 1.8V and 5.25V. A bypass capacitor of 0.1uF as close to the part as possible (See Datasheet)"
part A pins: 1 OUTA (out) "Amplifier Output. The voltage range extends to within millivolts of each supply rail.", 2 -INA (in) "Inverting Input of the Amplifier. Voltage range of this pin can go from V- - 0.1V to V+ + 0.1V.", 3 +INA (in) "Non-Inverting Input of Amplifier. This pin has the same voltage range as -IN.", 5 ~{SHDNA} (in) "Active Low Shutdown. Shutdown threshold is 0.6V above negative rail. If left unconnected, the amplifier will be on."
part B pins: 6 ~{SHDNB} (in) "Active Low Shutdown. Shutdown threshold is 0.6V above negative rail. If left unconnected, the amplifier will be on.", 7 +INB (in) "Non-Inverting Input of Amplifier. This pin has the same voltage range as -IN.", 8 -INB (in) "Inverting Input of the Amplifier. Voltage range of this pin can go from V- - 0.1V to V+ + 0.1V.", 9 OUTB (out) "Amplifier Output. The voltage range extends to within millivolts of each supply rail."

## LTC6256ITS8#PBF
designator U?
Dual Channel, Power Efficient Operational Amplifier, RRIO, 6.5 MHz Typical GBW, 1.8 V/us Typical SR, 1.8 to 5.25 V, 8-Pin SOP (TS8-8), Industrial, Pb-Free; Linear Technology Part Number: LTC6256; Manufacturer: Linear Technology; PartNumber: LTC6256ITS8#PBF; Channels (#): 2; GBW (MHz) Typical: 6.5; Is (mA) Typical: 0.065; SR (V/us) Typical: 1.8; Vos (mV) Typical: 0.1; Vs Max (V): 5.25; DatasheetVersion: Rev. B; PackageVersion: Rev A; PackageReference: LT-TS8-8-TSOT-23; PackageDescription: 8-Lead Plastic TSOT-23, Body 2.9 x 1.63 mm, Pitch 0.65 mm; RoHS: Pb-Free; Type: VFB; Vs Min (V): 1.8; Mounting Technology: Surface Mount; Code_JEDEC: MO-193; ComponentLink1Description: Manufacturer URL; ComponentLink1URL: http://www.linear.com/; ComponentLink2Description: Datasheet; ComponentLink2URL: http://cds.linear.com/docs/en/datasheet/625567fb.pdf; ComponentLink3Description: Package Specification; ComponentLink3URL: http://cds.linear.com/docs/en/packaging/SOT_8_05-08-1637.pdf
footprint LT-TS8-8-TSOT-23_V (SOT23, 8-Leads, Body 2.90x1.63mm, Pitch 0.65mm, IPC High Density, Recommended)
pins on every part: 4 V- (power) "Negative Power Supply. It is normally tied to ground. It can also be tied to a voltage other than ground as long as the voltage between V+ and V- is from 1.8V to 5.25V. If it is not connected to ground, bypass it with a (See Datasheet)", 8 V+ (power) "Positive Power Supply. Typically the voltage is from 1.8V to 5.25V. Split supplies are possible as long as the voltage between V+ and V- is between 1.8V and 5.25V. A bypass capacitor of 0.1uF as close to the part as possible (See Datasheet)"
part A pins: 1 OUTA (out) "Amplifier Output. The voltage range extends to within millivolts of each supply rail.", 2 -INA (in) "Inverting Input of the Amplifier. Voltage range of this pin can go from V- -0.1V to V+ + 0.1V.", 3 +INA (in) "Non-Inverting Input of Amplifier. This pin has the same voltage range as -IN."
part B pins: 5 +INB (in) "Non-Inverting Input of Amplifier. This pin has the same voltage range as -IN.", 6 -INB (in) "Inverting Input of the Amplifier. Voltage range of this pin can go from V- -0.1V to V+ + 0.1V.", 7 OUTB (out) "Amplifier Output. The voltage range extends to within millivolts of each supply rail."

## LTC6256ITS8#TRMPBF
designator U?
Dual Channel, Power Efficient Operational Amplifier, RRIO, 6.5 MHz Typical GBW, 1.8 V/us Typical SR, 1.8 to 5.25 V, 8-Pin SOP (TS8-8), Industrial, Pb-Free, Mini Reel; Linear Technology Part Number: LTC6256; Manufacturer: Linear Technology; PartNumber: LTC6256ITS8#TRMPBF; Channels (#): 2; GBW (MHz) Typical: 6.5; Is (mA) Typical: 0.065; SR (V/us) Typical: 1.8; Vos (mV) Typical: 0.1; Vs Max (V): 5.25; DatasheetVersion: Rev. B; PackageVersion: Rev A; PackageReference: LT-TS8-8-TSOT-23; PackageDescription: 8-Lead Plastic TSOT-23, Body 2.9 x 1.63 mm, Pitch 0.65 mm; Supplier 1: Digi-Key; Supplier Part Number 1: LTC6256ITS8#TRMPBF-ND; Packing: Mini Reel; RoHS: Pb-Free; Type: VFB; Vs Min (V): 1.8; Mounting Technology: Surface Mount; Code_JEDEC: MO-193; ComponentLink1Description: Manufacturer URL; ComponentLink1URL: http://www.linear.com/; ComponentLink2Description: Datasheet; ComponentLink2URL: http://cds.linear.com/docs/en/datasheet/625567fb.pdf; ComponentLink3Description: Package Specification; ComponentLink3URL: http://cds.linear.com/docs/en/packaging/SOT_8_05-08-1637.pdf
footprint LT-TS8-8-TSOT-23_V (SOT23, 8-Leads, Body 2.90x1.63mm, Pitch 0.65mm, IPC High Density, Recommended)
pins on every part: 4 V- (power) "Negative Power Supply. It is normally tied to ground. It can also be tied to a voltage other than ground as long as the voltage between V+ and V- is from 1.8V to 5.25V. If it is not connected to ground, bypass it with a (See Datasheet)", 8 V+ (power) "Positive Power Supply. Typically the voltage is from 1.8V to 5.25V. Split supplies are possible as long as the voltage between V+ and V- is between 1.8V and 5.25V. A bypass capacitor of 0.1uF as close to the part as possible (See Datasheet)"
part A pins: 1 OUTA (out) "Amplifier Output. The voltage range extends to within millivolts of each supply rail.", 2 -INA (in) "Inverting Input of the Amplifier. Voltage range of this pin can go from V- -0.1V to V+ + 0.1V.", 3 +INA (in) "Non-Inverting Input of Amplifier. This pin has the same voltage range as -IN."
part B pins: 5 +INB (in) "Non-Inverting Input of Amplifier. This pin has the same voltage range as -IN.", 6 -INB (in) "Inverting Input of the Amplifier. Voltage range of this pin can go from V- -0.1V to V+ + 0.1V.", 7 OUTB (out) "Amplifier Output. The voltage range extends to within millivolts of each supply rail."

## LTC6256ITS8#TRPBF
designator U?
Dual Channel, Power Efficient Operational Amplifier, RRIO, 6.5 MHz Typical GBW, 1.8 V/us Typical SR, 1.8 to 5.25 V, 8-Pin SOP (TS8-8), Industrial, Pb-Free, Reel; Linear Technology Part Number: LTC6256; Manufacturer: Linear Technology; PartNumber: LTC6256ITS8#TRPBF; Channels (#): 2; GBW (MHz) Typical: 6.5; Is (mA) Typical: 0.065; SR (V/us) Typical: 1.8; Vos (mV) Typical: 0.1; Vs Max (V): 5.25; DatasheetVersion: Rev. B; PackageVersion: Rev A; PackageReference: LT-TS8-8-TSOT-23; PackageDescription: 8-Lead Plastic TSOT-23, Body 2.9 x 1.63 mm, Pitch 0.65 mm; Supplier 1: Digi-Key; Supplier Part Number 1: LTC6256ITS8#TRPBF-ND; Packing: Reel; RoHS: Pb-Free; Type: VFB; Vs Min (V): 1.8; Mounting Technology: Surface Mount; Code_JEDEC: MO-193; ComponentLink1Description: Manufacturer URL; ComponentLink1URL: http://www.linear.com/; ComponentLink2Description: Datasheet; ComponentLink2URL: http://cds.linear.com/docs/en/datasheet/625567fb.pdf; ComponentLink3Description: Package Specification; ComponentLink3URL: http://cds.linear.com/docs/en/packaging/SOT_8_05-08-1637.pdf
footprint LT-TS8-8-TSOT-23_V (SOT23, 8-Leads, Body 2.90x1.63mm, Pitch 0.65mm, IPC High Density, Recommended)
pins on every part: 4 V- (power) "Negative Power Supply. It is normally tied to ground. It can also be tied to a voltage other than ground as long as the voltage between V+ and V- is from 1.8V to 5.25V. If it is not connected to ground, bypass it with a (See Datasheet)", 8 V+ (power) "Positive Power Supply. Typically the voltage is from 1.8V to 5.25V. Split supplies are possible as long as the voltage between V+ and V- is between 1.8V and 5.25V. A bypass capacitor of 0.1uF as close to the part as possible (See Datasheet)"
part A pins: 1 OUTA (out) "Amplifier Output. The voltage range extends to within millivolts of each supply rail.", 2 -INA (in) "Inverting Input of the Amplifier. Voltage range of this pin can go from V- -0.1V to V+ + 0.1V.", 3 +INA (in) "Non-Inverting Input of Amplifier. This pin has the same voltage range as -IN."
part B pins: 5 +INB (in) "Non-Inverting Input of Amplifier. This pin has the same voltage range as -IN.", 6 -INB (in) "Inverting Input of the Amplifier. Voltage range of this pin can go from V- -0.1V to V+ + 0.1V.", 7 OUTB (out) "Amplifier Output. The voltage range extends to within millivolts of each supply rail."

## LTC6257CMS#PBF
designator U?
Quad Channel, Power Efficient Operational Amplifier, RRIO, 6.5 MHz Typical GBW, 1.8 V/us Typical SR, 1.8 to 5.25 V, 16-Pin SOP (MS16), Commercial, Pb-Free; Linear Technology Part Number: LTC6257; Manufacturer: Linear Technology; PartNumber: LTC6257CMS#PBF; Channels (#): 4; GBW (MHz) Typical: 6.5; Is (mA) Typical: 0.065; SR (V/us) Typical: 1.8; Vos (mV) Typical: 0.1; Vs Max (V): 5.25; DatasheetVersion: Rev. B; PackageVersion: Rev Ø; PackageReference: LT-MS-16; PackageDescription: 16-Lead Plastic MSOP, Body 4.04 x 3.00 mm, Pitch 0.50 mm; Supplier 1: Digi-Key; Supplier Part Number 1: LTC6257CMS#PBF-ND; Supplier 2: Newark; Supplier Part Number 2: 78R8399; RoHS: Pb-Free; Type: VFB; Vs Min (V): 1.8; Mounting Technology: Surface Mount; ComponentLink1Description: Manufacturer URL; ComponentLink1URL: http://www.linear.com/; ComponentLink2Description: Datasheet; ComponentLink2URL: http://cds.linear.com/docs/en/datasheet/625567fb.pdf; ComponentLink3Description: Package Specification; ComponentLink3URL: http://cds.linear.com/docs/en/packaging/MSOP_16_05-08-1669.pdf
footprint LT-MS-16_N (SOP, 16-Leads, Body 4.04x3.00mm, Pitch 0.50mm, IPC Medium Density)
footprint LT-MS-16_L (SOP, 16-Leads, Body 4.04x3.00mm, Pitch 0.50mm, IPC High Density)
footprint LT-MS-16_M (SOP, 16-Leads, Body 4.04x3.00mm, Pitch 0.50mm, IPC Low Density)
part A pins: 1 OUT A (out), 2 IN- A (in), 3 IN+ A (in)
part B pins: 5 IN+ B (in), 6 IN- B (in), 7 OUT B (out)
part C pins: 10 OUT C (out), 11 IN- C (in), 12 IN+ C (in)
part D pins: 14 IN+ D (in), 15 IN- D (in), 16 OUT D (out)
part E pins: 4 V+ (power), 8 NC, 9 NC, 13 V- (power)

## LTC6257CMS#TRPBF
designator U?
Quad Channel, Power Efficient Operational Amplifier, RRIO, 6.5 MHz Typical GBW, 1.8 V/us Typical SR, 1.8 to 5.25 V, 16-Pin SOP (MS16), Commercial, Pb-Free, Reel; Linear Technology Part Number: LTC6257; Manufacturer: Linear Technology; PartNumber: LTC6257CMS#TRPBF; Channels (#): 4; GBW (MHz) Typical: 6.5; Is (mA) Typical: 0.065; SR (V/us) Typical: 1.8; Vos (mV) Typical: 0.1; Vs Max (V): 5.25; DatasheetVersion: Rev. B; PackageVersion: Rev Ø; PackageReference: LT-MS-16; PackageDescription: 16-Lead Plastic MSOP, Body 4.04 x 3.00 mm, Pitch 0.50 mm; Supplier 1: Digi-Key; Supplier Part Number 1: LTC6257CMS#TRPBF-ND; Packing: Reel; RoHS: Pb-Free; Type: VFB; Vs Min (V): 1.8; Mounting Technology: Surface Mount; ComponentLink1Description: Manufacturer URL; ComponentLink1URL: http://www.linear.com/; ComponentLink2Description: Datasheet; ComponentLink2URL: http://cds.linear.com/docs/en/datasheet/625567fb.pdf; ComponentLink3Description: Package Specification; ComponentLink3URL: http://cds.linear.com/docs/en/packaging/MSOP_16_05-08-1669.pdf
footprint LT-MS-16_N (SOP, 16-Leads, Body 4.04x3.00mm, Pitch 0.50mm, IPC Medium Density)
footprint LT-MS-16_L (SOP, 16-Leads, Body 4.04x3.00mm, Pitch 0.50mm, IPC High Density)
footprint LT-MS-16_M (SOP, 16-Leads, Body 4.04x3.00mm, Pitch 0.50mm, IPC Low Density)
part A pins: 1 OUT A (out), 2 IN- A (in), 3 IN+ A (in)
part B pins: 5 IN+ B (in), 6 IN- B (in), 7 OUT B (out)
part C pins: 10 OUT C (out), 11 IN- C (in), 12 IN+ C (in)
part D pins: 14 IN+ D (in), 15 IN- D (in), 16 OUT D (out)
part E pins: 4 V+ (power), 8 NC, 9 NC, 13 V- (power)

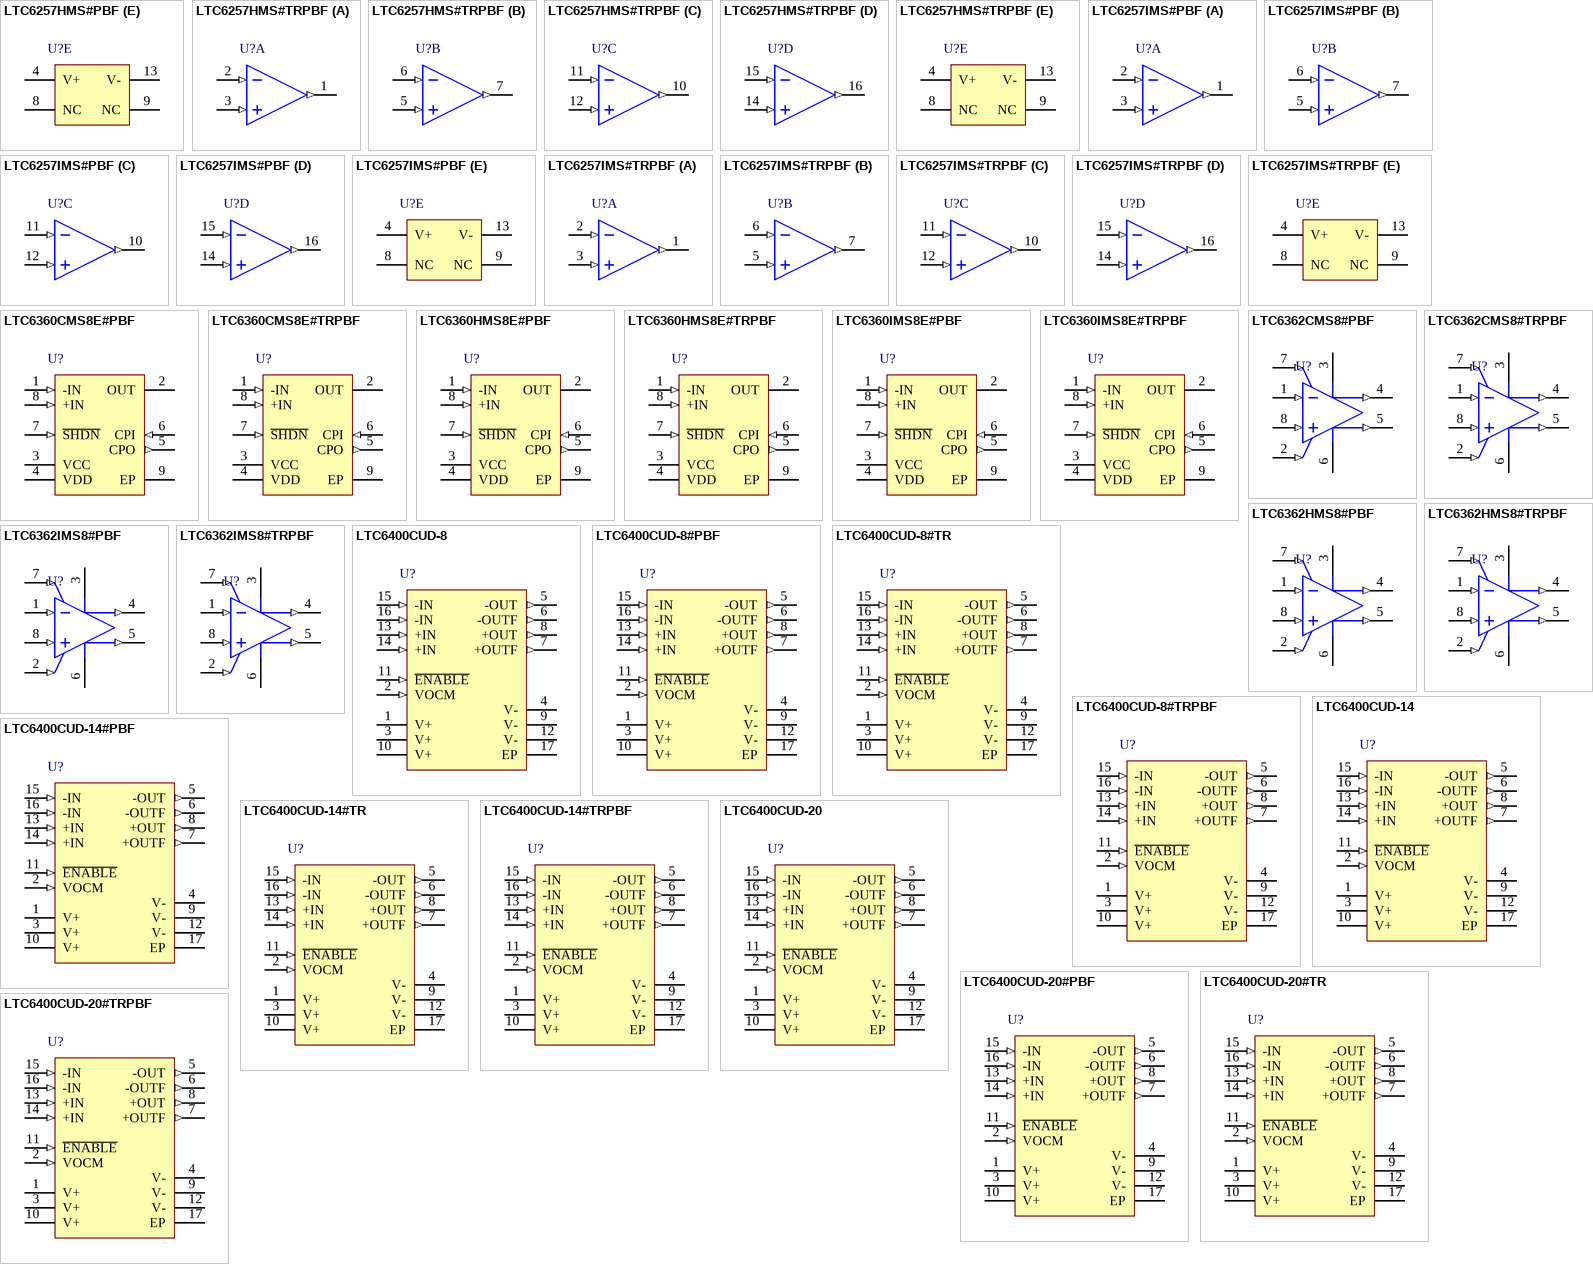
[diagram p71: symbols LTC6257HMS#PBF to LTC6400CUD-20#TRPBF]

## LTC6257HMS#PBF
designator U?
Quad Channel, Power Efficient Operational Amplifier, RRIO, 6.5 MHz Typical GBW, 1.8 V/us Typical SR, 1.8 to 5.25 V, 16-Pin SOP (MS16), High Temperature / Automotive, Pb-Free; Linear Technology Part Number: LTC6257; Manufacturer: Linear Technology; PartNumber: LTC6257HMS#PBF; Channels (#): 4; GBW (MHz) Typical: 6.5; Is (mA) Typical: 0.065; SR (V/us) Typical: 1.8; Vos (mV) Typical: 0.1; Vs Max (V): 5.25; DatasheetVersion: Rev. B; PackageVersion: Rev Ø; PackageReference: LT-MS-16; PackageDescription: 16-Lead Plastic MSOP, Body 4.04 x 3.00 mm, Pitch 0.50 mm; Supplier 1: Digi-Key; Supplier Part Number 1: LTC6257HMS#PBF-ND; RoHS: Pb-Free; Type: VFB; Vs Min (V): 1.8; Mounting Technology: Surface Mount; ComponentLink1Description: Manufacturer URL; ComponentLink1URL: http://www.linear.com/; ComponentLink2Description: Datasheet; ComponentLink2URL: http://cds.linear.com/docs/en/datasheet/625567fb.pdf; ComponentLink3Description: Package Specification; ComponentLink3URL: http://cds.linear.com/docs/en/packaging/MSOP_16_05-08-1669.pdf
footprint LT-MS-16_N (SOP, 16-Leads, Body 4.04x3.00mm, Pitch 0.50mm, IPC Medium Density)
footprint LT-MS-16_L (SOP, 16-Leads, Body 4.04x3.00mm, Pitch 0.50mm, IPC High Density)
footprint LT-MS-16_M (SOP, 16-Leads, Body 4.04x3.00mm, Pitch 0.50mm, IPC Low Density)
part A pins: 1 OUT A (out), 2 IN- A (in), 3 IN+ A (in)
part B pins: 5 IN+ B (in), 6 IN- B (in), 7 OUT B (out)
part C pins: 10 OUT C (out), 11 IN- C (in), 12 IN+ C (in)
part D pins: 14 IN+ D (in), 15 IN- D (in), 16 OUT D (out)
part E pins: 4 V+ (power), 8 NC, 9 NC, 13 V- (power)